# Altium footprint library Z 自恢复保险丝.PcbLib: 20 footprints (part 1 of 2)
Each footprint in its own frame and in the unit in brackets; x right, y up, seen from the top. Pads: shape width x height; smd on the part's side, far side on the other; paste and mask are expansions set on the pad; w line width, h text height; cw(c..) or ccw(c..) is an arc to the next point about the centre after c.
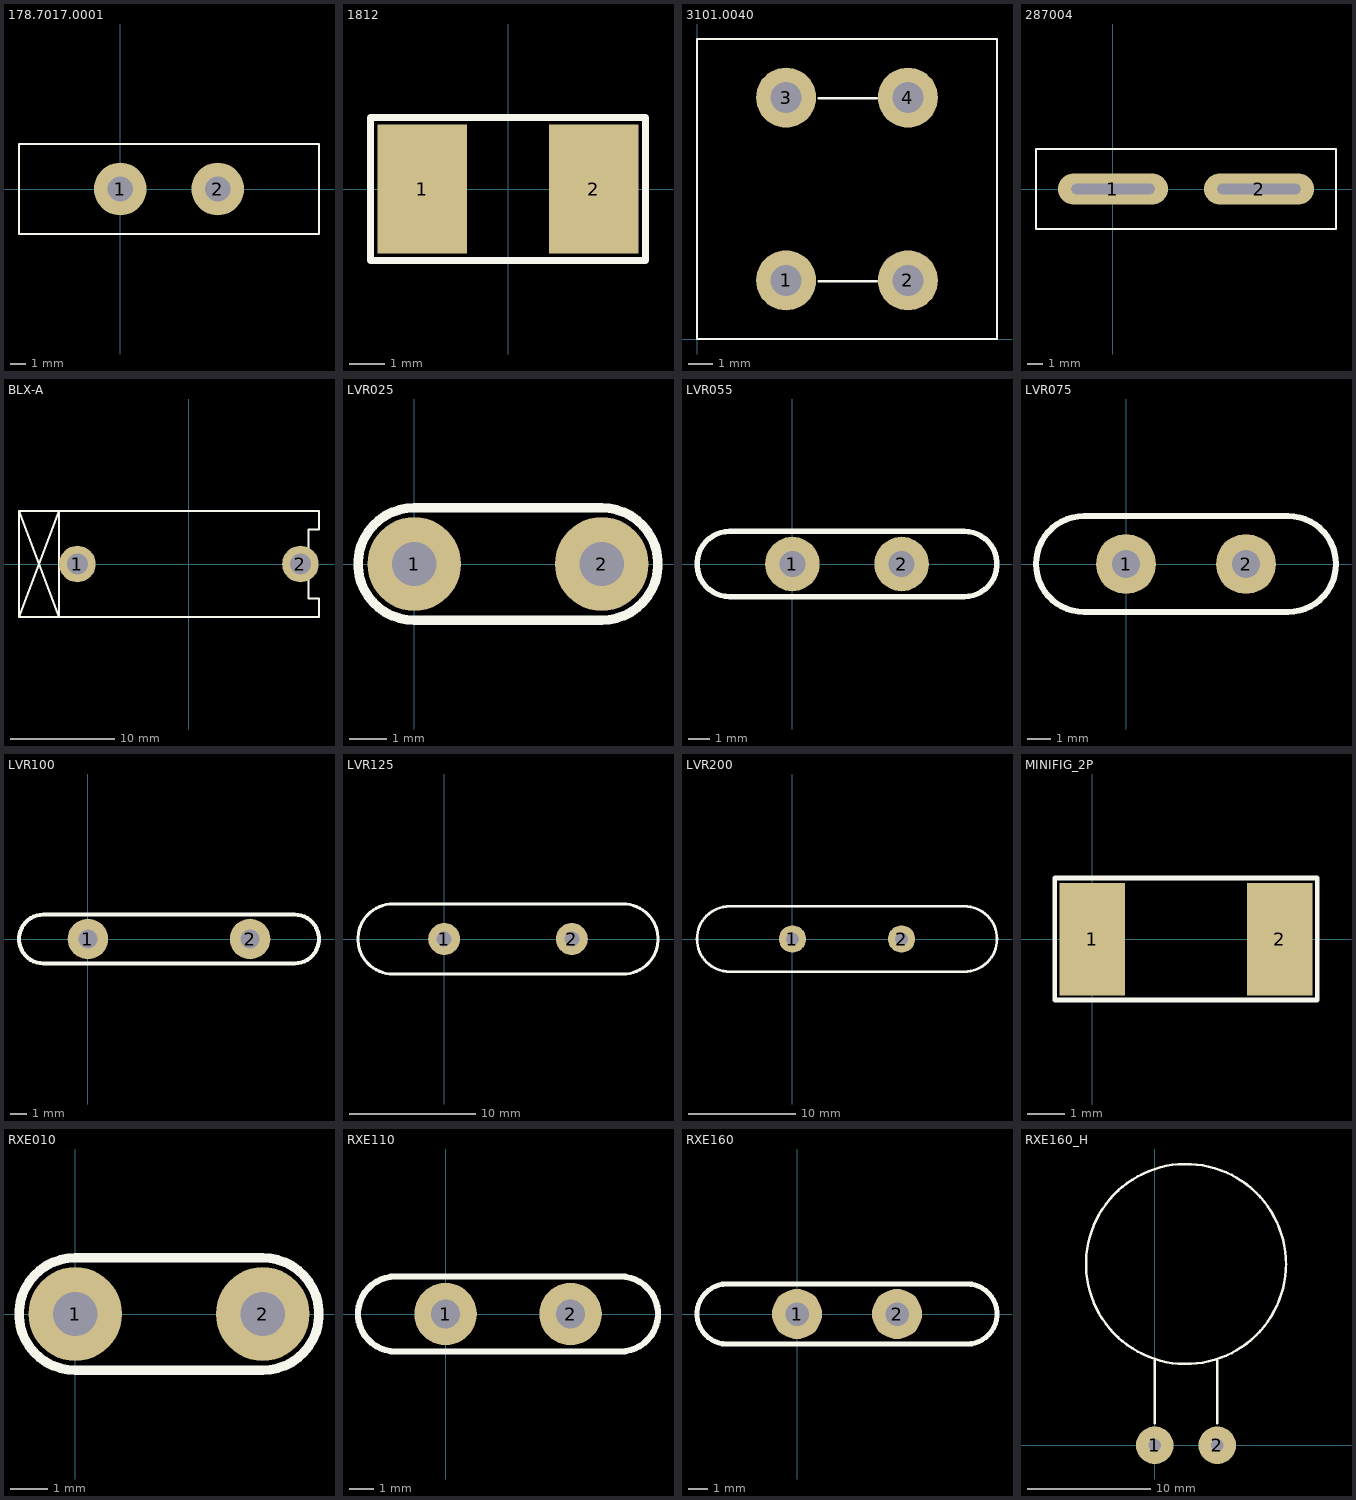
[diagram p0: the footprints below, top view; thin cyan lines are the x and y axes]

## 178.7017.0001 [mm] "5A，棕色，32Vdc"
height 23
pads (2):
  round 3.5 hole 1.7: 1(0,0) 2(6.5,0)
Top Overlay:
  lines w0.127: -6.75,-3 13.25,-3 13.25,3 -6.75,3 -6.75,-3

## 1812 [mm]
pads (2):
  rect 2.5x3.6 smd: 1(-2.4,0) 2(2.4,0)
Top Overlay:
  lines w0.2: -3.85,-2 -3.85,0 -3.85,2 3.85,2 3.85,-2 -3.85,-2

## 3101.0040 [mm] "保险丝端子(玻璃管保险丝5*20)"
height 32
pads (4):
  round 2.5 hole 1.3: 1(3.71,2.44) 2(8.79,2.44) 3(3.71,10.06) 4(8.79,10.06)
Top Overlay:
  lines w0.1: 5.08,2.413 7.493,2.413 ; 5.08,10.033 7.493,10.033 ; 0,0 12.5,0 12.5,12.5 0,12.5 0,0

## 287004 [mm] "4A，粉色，32Vdc"
height 18.8
pads (2):
  oval 7x2 hole 0.66 slot 5.3 at 0 deg: 1(0,0) 2(9.3,0)
Top Overlay:
  lines w0.127: -4.9,-2.55 -4.9,2.55 14.2,2.55 14.2,-2.55 -4.9,-2.55

## BLX-A [mil] "保险丝端子(玻璃管保险丝5*20)"
pads (2):
  round 138 hole 79: 1(-420,0) 2(420,0)
Top Overlay:
  lines w8: -640,-200 -490,200 ; -640,-200 -490,-200 ; -640,-200 -640,200 ; -640,200 -490,-200 ; -640,200 -490,200 ; -490,-200 -490,200 ; -490,-200 490,-200 490,-130 450,-130 450,130 490,130 490,200 -490,200

## LVR025 [mil] "交流0.25A-自恢复保险丝"
height 629.92
pads (2):
  round 100 hole 47: 1(0,0) 2(200,0)
Top Overlay:
  lines w10: 199,-60 0,-60 cw(c0,0) 0,60 199,60 ; 200,-60 ccw(c200,0) 200,60

## LVR055 [mil] "交流0.55A-自恢复保险丝"
pads (2):
  round 100 hole 47: 1(0,0) 2(200,0)
Top Overlay:
  lines w10: -115,-60 cw(c-115,0) -115,60 315,60 cw(c315,0) 315,-60 -115,-60

## LVR075 [mil] "交流0.75A-自恢复保险丝"
pads (2):
  round 100 hole 47: 1(0,0) 2(200,0)
Top Overlay:
  lines w10: -70,-80 cw(c-70,0) -70,80 270,80 cw(c270,0) 270,-80 -70,-80

## LVR100 [mil] "交流1A-自恢复保险丝"
height 26
pads (2):
  round 100 hole 47: 1(0,0) 2(400,0)
Top Overlay:
  lines w10: -110,-60 cw(c-110,0) -110,60 510,60 cw(c510,0) 510,-60 -110,-60

## LVR125 [mil] "交流1.25A-自恢复保险丝"
height 29
pads (2):
  round 100 hole 47: 1(0,0) 2(400,0)
Top Overlay:
  lines w10: -160,-110 cw(c-160,0) -160,110 560,110 cw(c560,0) 560,-110 -160,-110

## LVR200 [mil] "交流2A-自恢复保险丝"
height 35
pads (2):
  round 100 hole 47: 1(0,0) 2(400,0)
Top Overlay:
  lines w10: -230,-120 cw(c-230,0) -230,120 630,120 cw(c630,0) 630,-120 -230,-120

## MINIFIG_2P [mil]
pads (2):
  rect 70x120 smd: 1(0,0) 2(200,0)
Top Overlay:
  lines w5: -40,-65 -40,65 240,65 240,-65 -40,-65

## RXE010 [mil] "直流0.1A-自恢复保险丝"
height 433.07
pads (2):
  round 100 hole 47: 1(0,0) 2(200,0)
Top Overlay:
  lines w10: 199,-60 0,-60 cw(c0,0) 0,60 199,60 ; 200,-60 ccw(c200,0) 200,60

## RXE110 [mil] "直流1.1A-自恢复保险丝"
height 590.55
pads (2):
  round 100 hole 47: 1(0,0) 2(200,0)
Top Overlay:
  lines w10: -80,-60 cw(c-80,0) -80,60 280,60 cw(c280,0) 280,-60 -80,-60

## RXE160 [mil] "直流1.6A-自恢复保险丝"
height 708.66
pads (2):
  round 100 hole 47: 1(0,0) 2(200,0)
Top Overlay:
  lines w10: -150,-60 350,-60 ; -150,60 350,60 ; -140,-60 cw(c-140,0) -140,60 ; 340,-60 ccw(c340,0) 340,60

## RXE160_H [mil] "直流1.6A-自恢复保险丝"
height 118.11
pads (2):
  round 120 hole 39: 1(0,0) 2(200,0)
Top Overlay:
  circle w8: c100,580 r320
  lines w8: 0,70 0,270 ; 200,70 200,270